# EAGLE library part HIROSE_DF17_70_MIDDLE_GROUND (library greghale_eib_preamp)
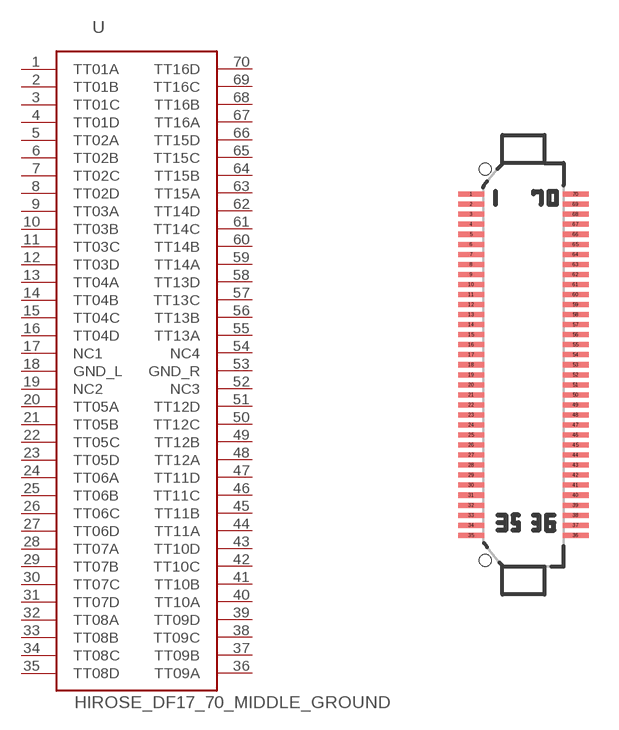
[diagram p10: symbol with the pads of HIROSE_DF17_70_TOPVIEW; footprint HIROSE_DF17_70_TOPVIEW]

Designator prefix -

## HIROSE_DF17_70_MIDDLE_GROUND  [HIROSE_DF17_70_TOPVIEW]
1  TT01A
2  TT01B
3  TT01C
4  TT01D
5  TT02A
6  TT02B
7  TT02C
8  TT02D
9  TT03A
10  TT03B
11  TT03C
12  TT03D
13  TT04A
14  TT04B
15  TT04C
16  TT04D
17  NC1  nc
18  GND_L
19  NC2  nc
20  TT05A
21  TT05B
22  TT05C
23  TT05D
24  TT06A
25  TT06B
26  TT06C
27  TT06D
28  TT07A
29  TT07B
30  TT07C
31  TT07D
32  TT08A
33  TT08B
34  TT08C
35  TT08D
36  TT09A
37  TT09B
38  TT09C
39  TT09D
40  TT10A
41  TT10B
42  TT10C
43  TT10D
44  TT11A
45  TT11B
46  TT11C
47  TT11D
48  TT12A
49  TT12B
50  TT12C
51  TT12D
52  NC3  nc
53  GND_R
54  NC4
55  TT13A
56  TT13B
57  TT13C
58  TT13D
59  TT14A
60  TT14B
61  TT14C
62  TT14D
63  TT15A
64  TT15B
65  TT15C
66  TT15D
67  TT16A
68  TT16B
69  TT16C
70  TT16D

## Footprint HIROSE_DF17_70_TOPVIEW (pad centres in mm)
smd 1.3 x 0.25: 1 -2.6,8.5; 2 -2.6,8; 3 -2.6,7.5; 4 -2.6,7; 5 -2.6,6.5; 6 -2.6,6; 7 -2.6,5.5; 8 -2.6,5; 9 -2.6,4.5; 10 -2.6,4; 11 -2.6,3.5; 12 -2.6,3; 13 -2.6,2.5; 14 -2.6,2; 15 -2.6,1.5; 16 -2.6,1; 17 -2.6,0.5; 18 -2.6,0; 19 -2.6,-0.5; 20 -2.6,-1; 21 -2.6,-1.5; 22 -2.6,-2; 23 -2.6,-2.5; 24 -2.6,-3; 25 -2.6,-3.5; 26 -2.6,-4; 27 -2.6,-4.5; 28 -2.6,-5; 29 -2.6,-5.5; 30 -2.6,-6; 31 -2.6,-6.5; 32 -2.6,-7; 33 -2.6,-7.5; 34 -2.6,-8; 35 -2.6,-8.5; 36 2.6,-8.5; 37 2.6,-8; 38 2.6,-7.5; 39 2.6,-7; 40 2.6,-6.5; 41 2.6,-6; 42 2.6,-5.5; 43 2.6,-5; 44 2.6,-4.5; 45 2.6,-4; 46 2.6,-3.5; 47 2.6,-3; 48 2.6,-2.5; 49 2.6,-2; 50 2.6,-1.5; 51 2.6,-1; 52 2.6,-0.5; 53 2.6,0; 54 2.6,0.5; 55 2.6,1; 56 2.6,1.5; 57 2.6,2; 58 2.6,2.5; 59 2.6,3; 60 2.6,3.5; 61 2.6,4; 62 2.6,4.5; 63 2.6,5; 64 2.6,5.5; 65 2.6,6; 66 2.6,6.5; 67 2.6,7; 68 2.6,7.5; 69 2.6,8; 70 2.6,8.5
hole 0.6 at -1.9,9.75
hole 0.6 at -1.9,-9.75